# EAGLE library part MMA7455L (library GadgetFactory_v1)
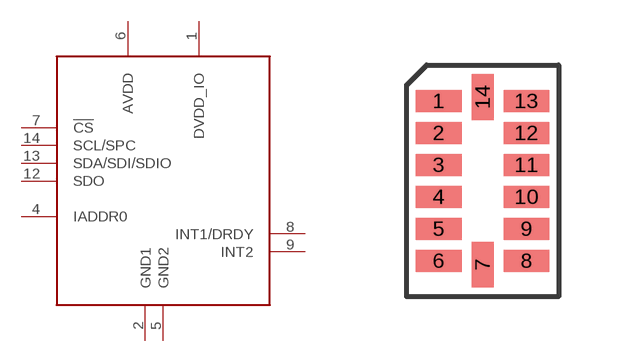
[diagram p45: symbol with the pads of LGA14; footprint LGA14]

Designator prefix U

## MMA7455L  [LGA14]
1  DVDD_IO  pwr
2  GND1  pas
3  NC1  nc
4  IADDR0  in
5  GND2  pas
6  AVDD  pwr
7  !CS  in
8  INT1/DRDY  out
9  INT2  out
10  NC2  nc
11  NC3  nc
12  SDO  out
13  SDA/SDI/SDIO
14  SCL/SPC  in

## Footprint LGA14 (pad centres in mm)
smd 1.145 x 0.55: 1 -1.097,2; 2 -1.097,1.2; 3 -1.097,0.4; 4 -1.097,-0.4; 5 -1.097,-1.2; 6 -1.097,-2; 8 1.097,-2; 9 1.097,-1.2; 10 1.097,-0.4; 11 1.097,0.4; 12 1.097,1.2; 13 1.097,2
smd 0.55 x 1.145: 7 0,-2.098; 14 0,2.098